# Altium footprint library MyRC.PcbLib: 12 footprints
Each footprint in its own frame and in the unit in brackets; x right, y up, seen from the top. Pads: shape width x height; smd on the part's side, far side on the other; paste and mask are expansions set on the pad; w line width, h text height; cw(c..) or ccw(c..) is an arc to the next point about the centre after c.
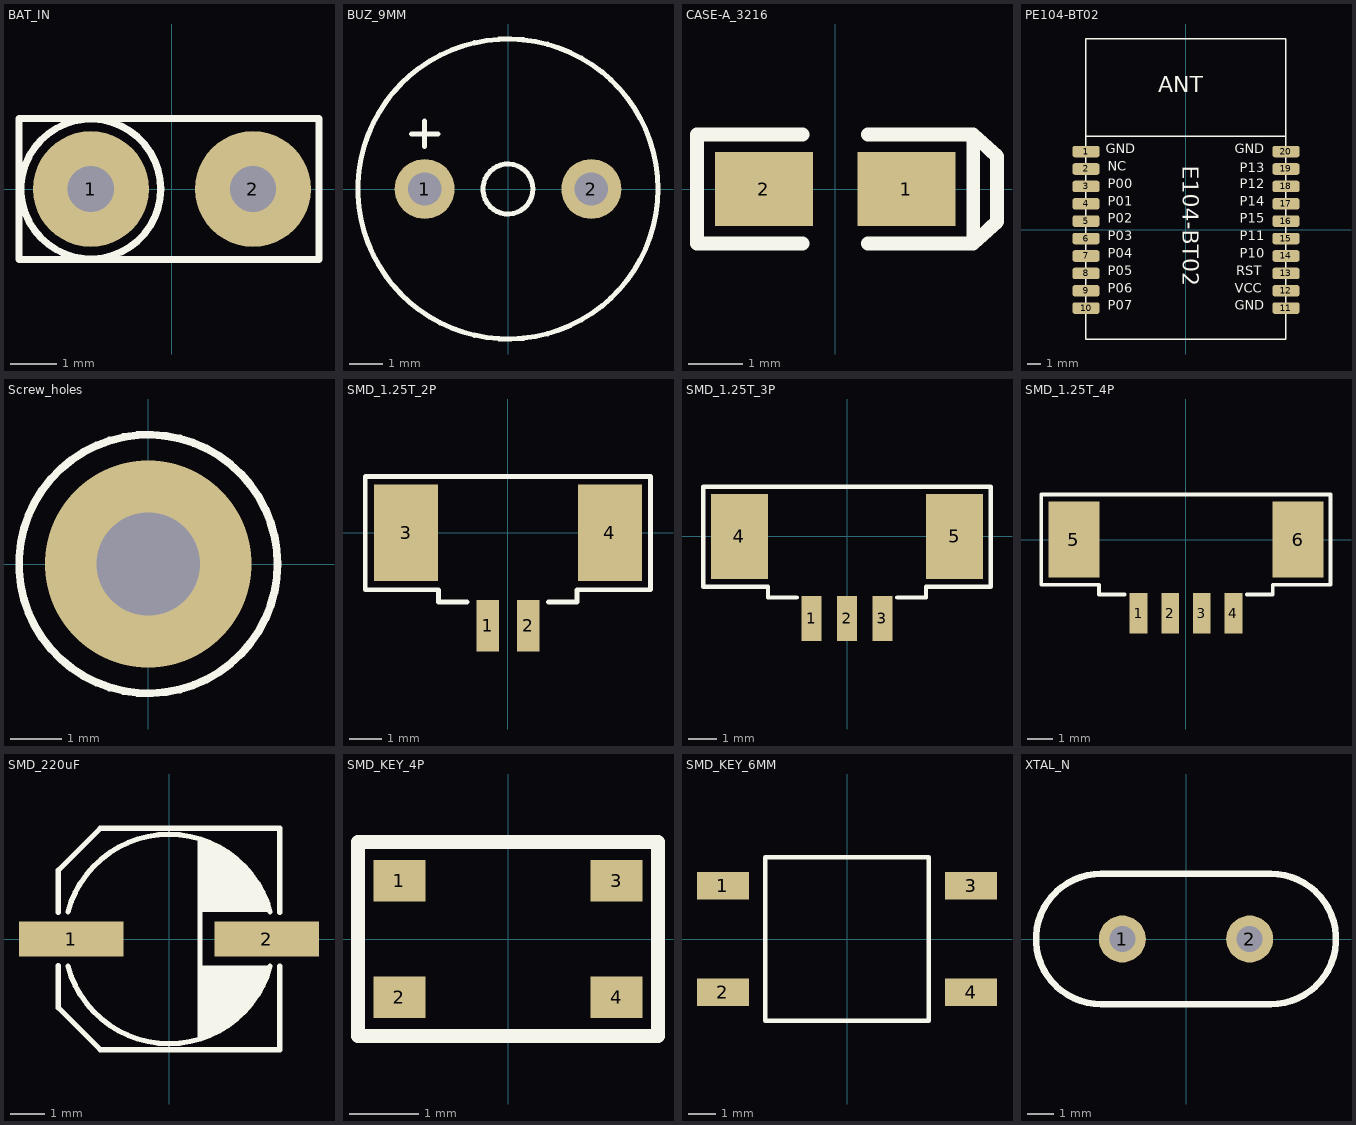
[diagram p0: the footprints below, top view; thin cyan lines are the x and y axes]

## BAT_IN [mm]
pads (2):
  round 2.5 hole 1: 1(-1.75,0) 2(1.75,0)
Top Overlay:
  circle w0.152: c-1.75,0 r1.508
  lines w0.152: -3.302,-1.524 -3.302,1.524 3.175,1.524 3.175,0 3.175,-1.524 -3.302,-1.524

## BUZ_9MM [mm]
pads (2):
  round 1.8 hole 1: 1(-2.5,0) 2(2.5,0)
Top Overlay:
  circle w0.152: c0,0 r4.5
  circle w0.152: c0,0 r0.75
  lines w0.152: -2.9,1.651 -2.1,1.651 ; -2.5,1.27 -2.5,2.032

## CASE-A_3216 [mm]
pads (2):
  rect 1.8x1.35 smd: 1(1.31,0) 2(-1.31,0)
Top Overlay:
  lines w0.254: -0.6,-1.002 -2.537,-1.002 -2.537,1.002 -0.6,1.002 ; 0.6,-1.002 2.537,-1.002 ; 0.6,1.002 2.537,1.002 ; 2.537,-1.002 2.537,1.002 ; 2.537,-1.002 2.973,-0.6 2.973,0.6 2.537,1.002
3D body "User Library-AVX_ACASE.STEP": height 1.71, standoff 0, extent -1.7,-0.84 1.7,0.84

## PE104-BT02 [mm] "22mm*14.70mm*2.7mm-S"
pads (20):
  rrect50% 2x0.85 smd: 1(-7.3,5.715) 2(-7.3,4.445) 3(-7.3,3.175) 4(-7.3,1.905) 5(-7.3,0.635) 6(-7.3,-0.635) 7(-7.3,-1.905) 8(-7.3,-3.175) 9(-7.3,-4.445) 10(-7.3,-5.715) 11(7.3,-5.715) 12(7.3,-4.445) 13(7.3,-3.175) 14(7.3,-1.905) 15(7.3,-0.635) 16(7.3,0.635) 17(7.3,1.905) 18(7.3,3.175) 19(7.3,4.445) 20(7.3,5.715)
Top Overlay:
  lines w0.1: -7.325,6.823 7.275,6.823 ; -7.325,-7.965 -7.325,13.935 7.275,13.935 7.275,-7.965 -7.325,-7.965
  text "P07" at -5.715,-6.096 h1.2
  text "P06" at -5.715,-4.826 h1.2
  text "P05" at -5.715,-3.556 h1.2
  text "P04" at -5.715,-2.286 h1.2
  text "P03" at -5.715,-1.016 h1.2
  text "GND" at -5.842,5.334 h1.2
  text "NC" at -5.715,4.064 h1.2
  text "P00" at -5.715,2.794 h1.2
  text "P01" at -5.715,1.524 h1.2
  text "P02" at -5.715,0.254 h1.2
  text "P15" at 3.937,0.254 h1.2
  text "P14" at 3.937,1.524 h1.2
  text "P12" at 3.937,2.794 h1.2
  text "P13" at 3.937,3.937 h1.2
  text "GND" at 3.556,5.334 h1.2
  text "P11" at 3.937,-1.016 h1.2
  text "P10" at 3.937,-2.286 h1.2
  text "RST" at 3.683,-3.556 h1.2
  text "VCC" at 3.556,-4.826 h1.2
  text "GND" at 3.556,-6.096 h1.2
  text "E104-BT02" at -0.635,4.699 h2
  text "ANT" at -2.032,9.652 h2

## Screw_holes [mm]
via 0,0 diameter 4 hole 2
Top Overlay:
  circle w0.152: c0,0 r2.5
  region: 3.302,2.032
Bottom Overlay:
  circle w0.152: c0,0 r2.5

## SMD_1.25T_2P [mm]
pads (4):
  rect 0.7x1.6 smd: 1(-0.62,-2.9) 2(0.63,-2.9)
  rect 2x3 smd: 3(-3.17,0) 4(3.18,0)
Top Overlay:
  lines w0.152: -1.27,-2.159 -2.159,-2.159 -2.159,-1.778 -4.445,-1.778 -4.445,1.75 4.445,1.75 4.445,-1.778 2.159,-1.778 2.159,-2.159 1.27,-2.159

## SMD_1.25T_3P [mm]
pads (5):
  rect 0.7x1.6 smd: 1(-1.25,-2.9) 2(0,-2.9) 3(1.25,-2.9)
  rect 2x3 smd: 4(-3.8,0) 5(3.8,0)
Top Overlay:
  lines w0.152: -1.778,-2.159 -2.794,-2.159 -2.794,-1.778 -5.08,-1.778 -5.08,1.651 -5.08,1.75 5.08,1.75 5.08,1.651 5.08,-1.778 2.794,-1.778 2.794,-2.159 1.778,-2.159

## SMD_1.25T_4P [mm]
pads (6):
  rect 0.7x1.6 smd: 1(-1.87,-2.9) 2(-0.62,-2.9) 3(0.63,-2.9) 4(1.88,-2.9)
  rect 2x3 smd: 5(-4.42,0) 6(4.43,0)
Top Overlay:
  lines w0.152: -2.413,-2.159 -3.429,-2.159 -3.429,-1.778 -5.715,-1.778 -5.715,1.778 5.715,1.778 5.715,-1.778 3.429,-1.778 3.429,-2.159 2.413,-2.159

## SMD_220uF [mm]
pads (2):
  rect 3x1 smd: 1(-2.8,0) 2(2.8,0)
Top Overlay:
  region: 0.889,2.794 1.27,2.794 1.651,2.413 1.778,2.413 2.667,1.524 2.667,1.27 2.898,1.039 2.898,0.776 0.903,0.776 0.889,0.762
  region: 2.898,-0.776 2.883,-0.762 0.889,-0.762 0.889,-2.794 1.27,-2.794 1.651,-2.413 1.778,-2.413 2.667,-1.524 2.667,-1.385 2.794,-1.258 2.794,-1.143
  lines w0.152: -3.175,-0.762 -3.175,-1.968 -1.968,-3.175 3.175,-3.175 3.175,-0.776 ; -3.175,0.769 -3.175,1.968 -1.968,3.175 -1.651,3.175 3.175,3.175 3.175,0.769 ; -2.898,-0.776 ccw(c0,0) 2.898,-0.776 ; -2.898,0.776 cw(c0,0) 2.898,0.776 ; 0.889,-2.794 0.889,2.794

## SMD_KEY_4P [mm]
pads (4):
  rect 0.75x0.6 smd: 1(-1.563,0.837) 2(-1.563,-0.838) 3(1.562,0.837) 4(1.562,-0.838)
Top Overlay:
  lines w0.203: -2.159,-1.397 2.159,-1.397 2.159,1.397 -2.159,1.397 -2.159,-1.397

## SMD_KEY_6MM [mm]
pads (4):
  rect 1.9x1 smd: 1(-4.55,1.95) 2(-4.55,-1.95) 3(4.55,1.95) 4(4.55,-1.95)
Top Overlay:
  lines w0.152: -3,-3 3,-3 3,3 -3,3 -3,-3

## XTAL_N [mm]
pads (2):
  round 1.8 hole 1: 1(-2.44,0) 2(2.44,0)
Top Overlay:
  lines w0.254: -3.25,-2.5 cw(c-3.25,0) -3.25,2.5 3.25,2.5 cw(c3.25,0) 3.25,-2.5 -3.25,-2.5